# EAGLE library part LT8330 (library AR_IC)
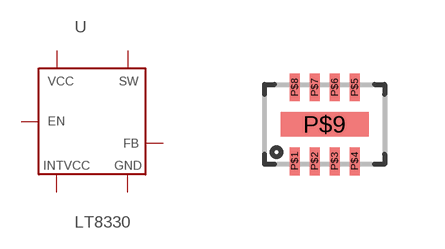
[diagram p2: symbol with the pads of 8-DFN; footprint 8-DFN]

Designator prefix -

## LT8330  [8-DFN]
P$1  FB
P$3  SW
P$4  SW
P$5  GND
P$6  VCC
P$7  INTVCC
P$8  EN
P$9  GND

## Footprint 8-DFN (pad centres in mm)
smd 0.25 x 0.7: P$1 -0.75,-0.925; P$2 -0.25,-0.925; P$3 0.25,-0.925; P$4 0.75,-0.925; P$5 0.75,0.925; P$6 0.25,0.925; P$7 -0.25,0.925; P$8 -0.75,0.925
smd 2.2 x 0.61: P$9 0,0